# Altium footprint library Cypress_USB_UART_CY7C64225_SSSOP28.PcbLib: 1 footprints
Each footprint in its own frame and in the unit in brackets; x right, y up, seen from the top. Pads: shape width x height; smd on the part's side, far side on the other; paste and mask are expansions set on the pad; w line width, h text height; cw(c..) or ccw(c..) is an arc to the next point about the centre after c.
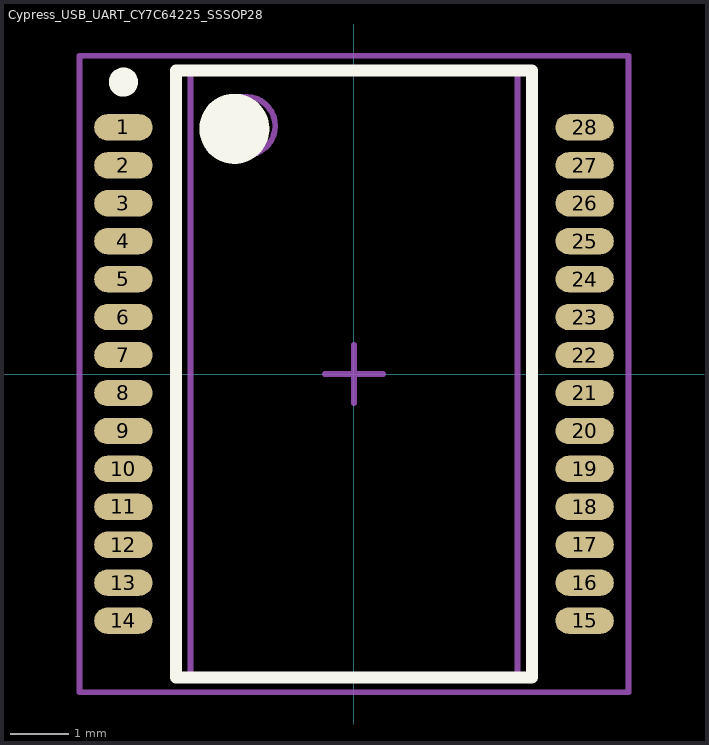
[diagram p0: the footprint, top view; thin cyan lines are the x and y axes]

## Cypress_USB_UART_CY7C64225_SSSOP28 [mm] "CY7C64225-28PVXC, USB-UART bridge"
height 2
pads (28):
  oval 1x0.45 smd: 1(-3.95,4.225) 2(-3.95,3.575) 3(-3.95,2.925) 4(-3.95,2.275) 5(-3.95,1.625) 6(-3.95,0.975) 7(-3.95,0.325) 8(-3.95,-0.325) 9(-3.95,-0.975) 10(-3.95,-1.625) 11(-3.95,-2.275) 12(-3.95,-2.925) 13(-3.95,-3.575) 14(-3.95,-4.225) 15(3.95,-4.225) 16(3.95,-3.575) 17(3.95,-2.925) 18(3.95,-2.275) 19(3.95,-1.625) 20(3.95,-0.975) 21(3.95,-0.325) 22(3.95,0.325) 23(3.95,0.975) 24(3.95,1.625) 25(3.95,2.275) 26(3.95,2.925) 27(3.95,3.575) 28(3.95,4.225)
Top Overlay:
  circle w0.25: c-3.95,5 r0.125
  circle w0.6: c-2.05,4.2 r0.3
  lines w0.2: -3.05,-5.2 -3.05,5.2 3.05,5.2 3.05,-5.2 -3.05,-5.2
Mechanical 13:
  circle w0.1: c-1.85,4.25 r0.5
  lines w0.1: -2.8,-5.2 -2.8,5.2 2.8,5.2 2.8,-5.2 -2.8,-5.2
Mechanical 15:
  lines w0.1: -0.5,0 0.5,0 ; 0,-0.5 0,0.5 ; -4.7,-5.45 -4.7,5.45 4.7,5.45 4.7,-5.45 -4.7,-5.45
3D body: height 2, standoff 0.05, extent -2.8,-5.2 2.8,5.2